# EAGLE library part MP01594 (library golledge)
SAW Filter Example 159.01250MHz Datasheet and Purchasing Information <http://www.golledge.com/docs/products/saw/gsrf_list.htm?src=eagle>
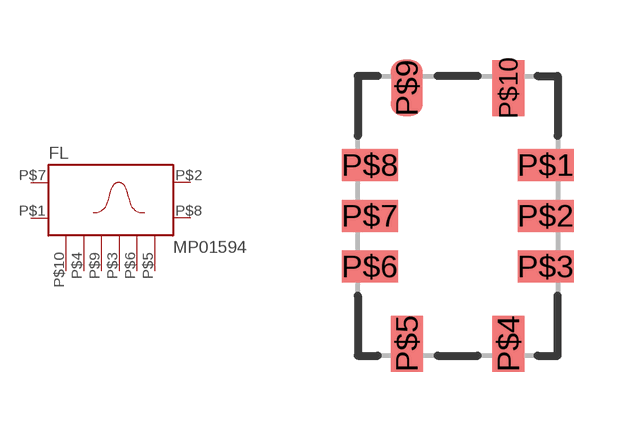
[diagram p1: symbol with the pads of SAW7X5; footprint SAW7X5]

Designator prefix FL

## MP01594 (HEIGHT: 1.8)  [SAW7X5]
P$1  INBAR_OR_GND  pas
P$2  OUT  pas
P$3  P$3  pas
P$4  CASE  pas
P$5  CASE  pas
P$6  P$2  pas
P$7  IN  pas
P$8  OUTBAR_OR_GND  pas
P$9  P$1  pas
P$10  CASE  pas

## Footprint SAW7X5 (pad centres in mm)
SAW SM packege 7 x 5 mm. 10 pads.
smd 1.4 x 0.8: P$1 2.2,1.27; P$2 2.2,0; P$3 2.2,-1.27; P$6 -2.2,-1.27; P$7 -2.2,0; P$8 -2.2,1.27
smd 0.8 x 1.4: P$4 1.27,-3.2; P$5 -1.27,-3.2; P$9 -1.27,3.2; P$10 1.27,3.2